# Altium schematic symbol library Schlib1.SchLib: 5 symbols
Pins are listed as number, name and electrical type; pins without a type are passive.

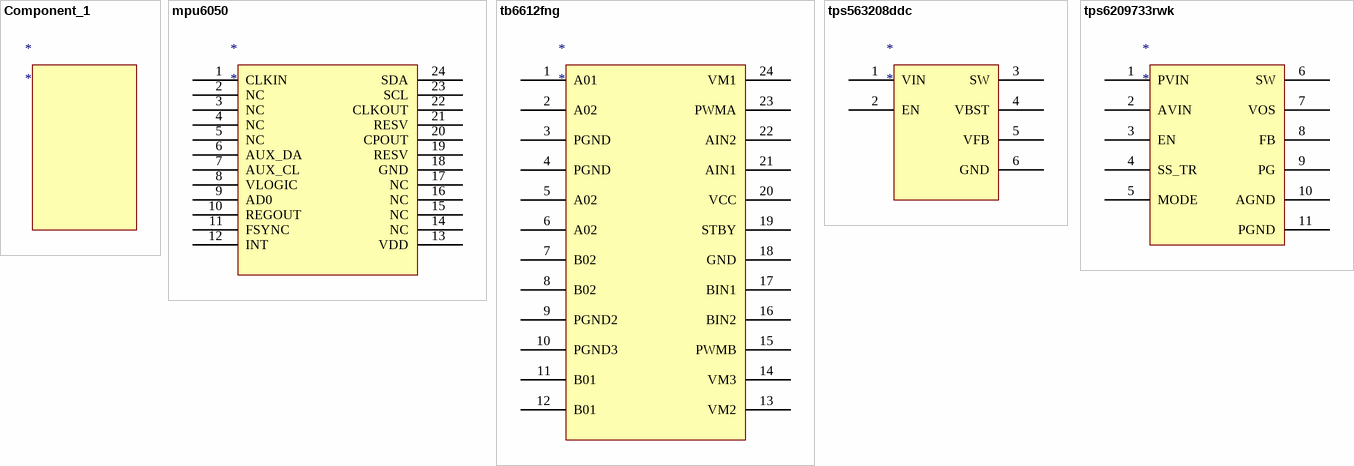
[diagram p0: symbols Component_1 to tps6209733rwk]

## Component_1
designator *

## mpu6050
designator *
footprint mpu6050 (QFN, 24-Leads, Body 4.00x4.00mm, Pitch 0.50mm, Thermal Pad 2.70x2.60mm, IPC Medium Density)
pins: 1 CLKIN, 2 NC, 3 NC, 4 NC, 5 NC, 6 AUX_DA, 7 AUX_CL, 8 VLOGIC, 9 AD0, 10 REGOUT, 11 FSYNC, 12 INT, 13 VDD, 14 NC, 15 NC, 16 NC, 17 NC, 18 GND, 19 RESV, 20 CPOUT, 21 RESV, 22 CLKOUT, 23 SCL, 24 SDA

## tb6612fng
designator *
footprint tb6612fng - duplicate (TSOP, 24-Leads, Body 7.90x5.60mm, Pitch 0.65mm, IPC Medium Density)
pins: 1 A01, 2 A02, 3 PGND, 4 PGND, 5 A02, 6 A02, 7 B02, 8 B02, 9 PGND2, 10 PGND3, 11 B01, 12 B01, 13 VM2, 14 VM3, 15 PWMB, 16 BIN2, 17 BIN1, 18 GND, 19 STBY, 20 VCC, 21 AIN1, 22 AIN2, 23 PWMA, 24 VM1

## tps563208ddc
designator *
pins: 1 VIN, 2 EN, 3 SW, 4 VBST, 5 VFB, 6 GND

## tps6209733rwk
designator *
pins: 1 PVIN, 2 AVIN, 3 EN, 4 SS_TR, 5 MODE, 6 SW, 7 VOS, 8 FB, 9 PG, 10 AGND, 11 PGND